# Altium schematic symbol library VideoSensor.SchLib: 2 symbols
Pins are listed as number, name and electrical type; pins without a type are passive.

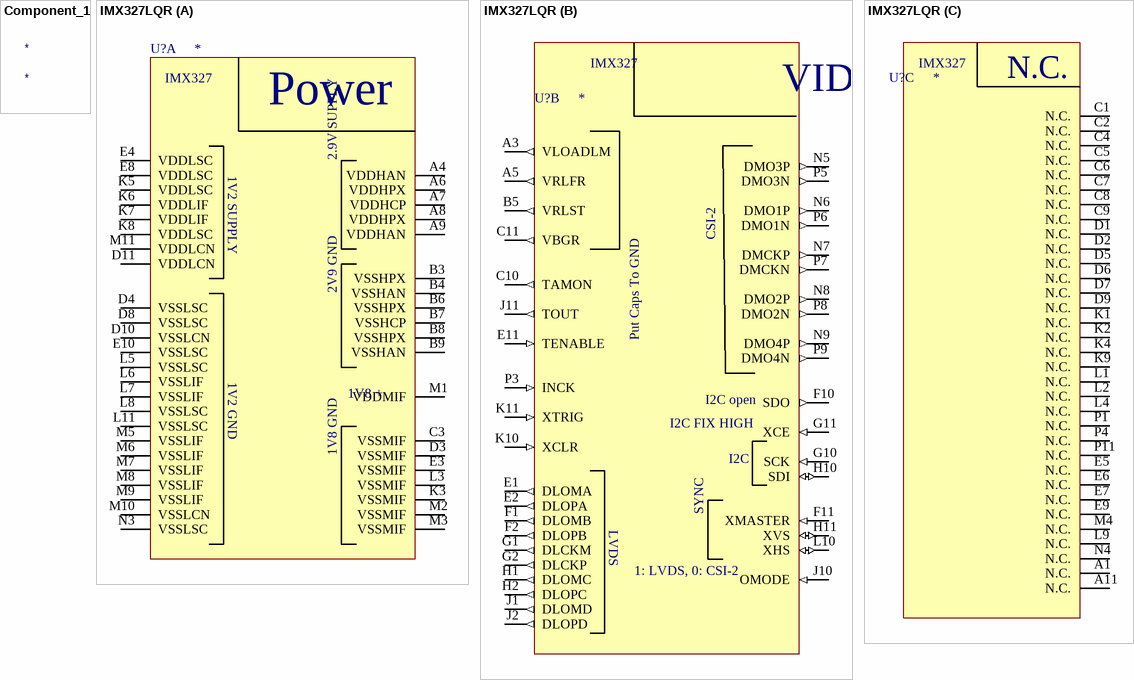
[diagram p0: symbols Component_1 to IMX327LQR]

## Component_1
designator *

## IMX327LQR
designator U?
footprint IMX327LQR_FOOTPRINT
part A pins: A4 VDDHAN (power) "2.9 V power supply", A6 VDDHPX (power) "2.9 V power supply", A7 VDDHCP (power) "2.9 V power supply", A8 VDDHPX (power) "2.9 V power supply", A9 VDDHAN (power) "2.9 V power supply", B3 VSSHPX "2.9 V GND", B4 VSSHAN "2.9 V GND", B6 VSSHPX "2.9 V GND", B7 VSSHCP "2.9 V GND", B8 VSSHPX "2.9 V GND", B9 VSSHAN "2.9 V GND", C3 VSSMIF "1.8 V GND", D3 VSSMIF "1.8 V GND", D4 VSSLSC "1.2 V GND", D8 VSSLSC "1.2 V GND", D10 VSSLCN "1.2 V GND", D11 VDDLCN (power) "1.2 V power supply", E3 VSSMIF "1.8 V GND", E4 VDDLSC (power) "1.2 V power supply", E8 VDDLSC (power) "1.2 V power supply", E10 VSSLSC "1.2 V GND", K3 VSSMIF "1.8 V GND", K5 VDDLSC (power) "1.2 V power supply", K6 VDDLIF (power) "1.2 V power supply", K7 VDDLIF (power) "1.2 V power supply", K8 VDDLSC (power) "1.2 V power supply", L3 VSSMIF "1.8 V GND", L5 VSSLSC "1.2 V GND", L6 VSSLIF "1.2 V GND", L7 VSSLIF "1.2 V GND", L8 VSSLSC "1.2 V GND", L11 VSSLSC "1.2 V GND", M1 VDDMIF (power) "1.8 V power supply", M2 VSSMIF "1.8 V GND", M3 VSSMIF "1.8 V GND", M5 VSSLIF "1.2 V GND", M6 VSSLIF "1.2 V GND", M7 VSSLIF "1.2 V GND", M8 VSSLIF "1.2 V GND", M9 VSSLIF "1.2 V GND", M10 VSSLCN "1.2 V GND", M11 VDDLCN (power) "1.2 V power supply", N3 VSSLSC "1.2 V GND"
part B pins: A3 VLOADLM (out) "Reference pin", A5 VRLFR (out) "Reference pin", B5 VRLST (out) "Reference pin", C10 TAMON (out) "TEST output pin", C11 VBGR (out) "Reference pin", E1 DLOMA (out) "LVDS output", E2 DLOPA (out) "LVDS output", E11 TENABLE (in) "TEST Enable", F1 DLOMB (out) "LVDS output", F2 DLOPB (out) "LVDS output", F10 SDO (out) "Communication output", F11 XMASTER (in) "Master / Slave selection", G1 DLCKM (out) "LVDS output", G2 DLCKP (out) "LVDS output", G10 SCK (in) "Communication clock", G11 XCE (in) "Communication enable", H1 DLOMC (out) "LVDS output", H2 DLOPC (out) "LVDS output", H10 SDI (io) "Communication input", H11 XVS (io) "Vertical sync signal", J1 DLOMD (out) "LVDS output", J2 DLOPD (out) "LVDS output", J10 OMODE (in) "Serial      output      interface selection", J11 TOUT (out) "TEST output pin", K10 XCLR (in) "System clear", K11 XTRIG (in) "Trigger mode input", L10 XHS (io) "Horizontal sync signal", N5 DMO3P (out) "CSI-2 output", N6 DMO1P (out) "CSI-2 output", N7 DMCKP (out) "CSI-2 output", N8 DMO2P (out) "CSI-2 output", N9 DMO4P (out) "CSI-2 output", P3 INCK (in) "Master clock input", P5 DMO3N (out) "CSI-2 output", P6 DMO1N (out) "CSI-2 output", P7 DMCKN (out) "CSI-2 output", P8 DMO2N (out) "CSI-2 output", P9 DMO4N (out) "CSI-2 output"
part C pins: A1 N.C. "―", A11 N.C. "―", C1 N.C. "―", C2 N.C. "―", C4 N.C. "―", C5 N.C. "―", C6 N.C. "―", C7 N.C. "―", C8 N.C. "―", C9 N.C. "―", D1 N.C. "―", D2 N.C. "―", D5 N.C. "―", D6 N.C. "―", D7 N.C. "―", D9 N.C. "―", E5 N.C. "―", E6 N.C. "―", E7 N.C. "―", E9 N.C. "―", K1 N.C. "―", K2 N.C. "―", K4 N.C. "―", K9 N.C. "―", L1 N.C. "―", L2 N.C. "―", L4 N.C. "―", L9 N.C. "―", M4 N.C. "―", N4 N.C. "―", P1 N.C. "―", P4 N.C. "―", P11 N.C. "―"
part A text: IMX327; Power; 2.9V SUPPLY; 1V2 SUPPLY; 2V9 GND; 1V2 GND; 1V8 +; 1V8 GND
part B text: IMX327; VIDEO; Put Caps To GND; CSI-2; I2C open; I2C FIX HIGH; I2C; SYNC; LVDS; 1: LVDS, 0: CSI-2
part C text: IMX327